# EAGLE library part 444BD21025816 (library Switches_rev16a)
WS-TLS 6,8*4,5mm Tact Switch with integrated LED, SMD version, 6 pins
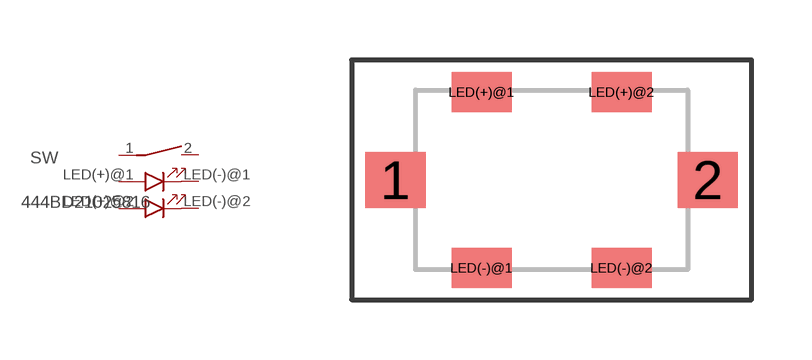
[diagram p146: symbol with the pads of 444BD21025816; footprint 444BD21025816]

Designator prefix SW

## 444BD21025816  [444BD21025816]
1  1  pas
2  2  pas
LED(+)@1  LED(+)  pas
LED(+)@2  LED(+)  pas
LED(-)@1  LED(-)  pas
LED(-)@2  LED(-)  pas

## Footprint 444BD21025816 (pad centres in mm)
WS-TLS 6,8*4,5mm Tact Switch with integrated LED, SMD version, 6 pins
smd 1.5 x 1.4: 1 -3.9,0; 2 3.9,0
smd 1.5 x 1: LED(+)@1 -1.75,2.2; LED(+)@2 1.75,2.2; LED(-)@1 -1.75,-2.2; LED(-)@2 1.75,-2.2